# EAGLE library part ZM1020 (library nixietubes-western)
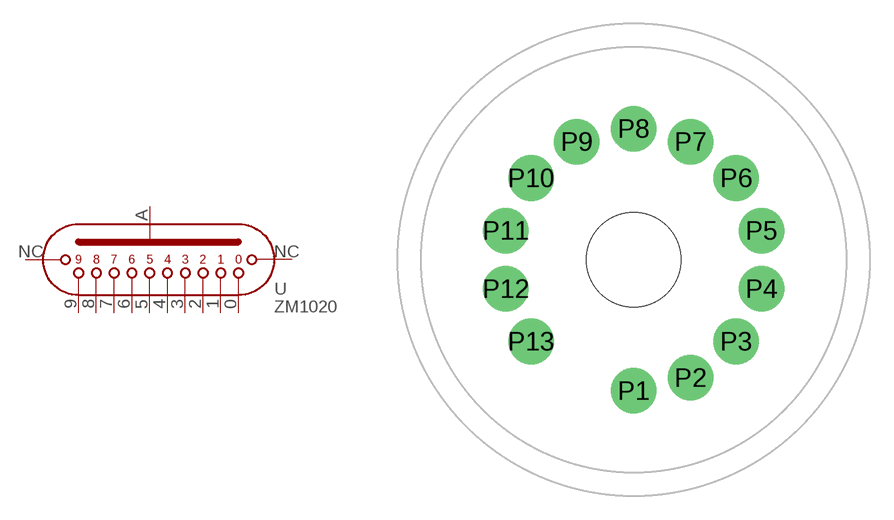
[diagram p2: symbol with the pads of ZM1020; footprint ZM1020]

Designator prefix -

## ZM1020  [ZM1020]
P1  NC1
P2  A
P3  0
P4  9
P5  8
P6  7
P7  6
P8  NC2
P9  5
P10  4
P11  3
P12  2
P13  1

## Footprint ZM1020 (pad centres in mm)
This is the footprint suitable for the following nixie tubes: * ZM1020 * ZM1022 * Z520M * Z560M * Z5600M Tube diameter: 30mm Height from PCB: 26.5mm Symbol Height: 15.5mm
drill 1.93: P1 0,-8.325; P2 3.61,-7.5; P3 6.51,-5.19; P4 8.12,-1.85; P5 8.12,1.85; P6 6.51,5.19; P7 3.61,7.5; P8 0,8.325; P9 -3.61,7.5; P10 -6.51,5.19; P11 -8.12,1.85; P12 -8.12,-1.85; P13 -6.51,-5.19
hole 6 at 0,0